# EAGLE library part CONN_DB25-F (library psas_eagle_library)
Standard 25 pin Female "D" type connector. This is the one that plugs into old-style (wide) PC serial ports.
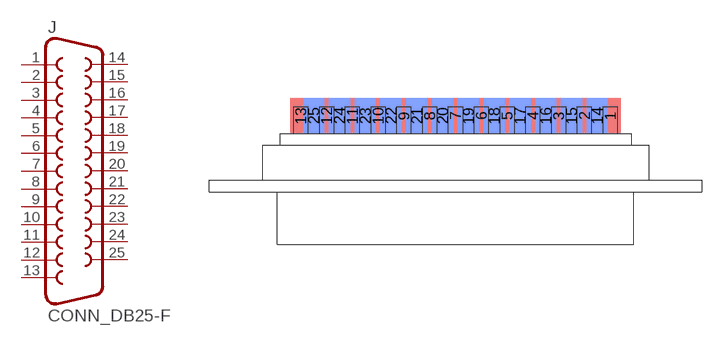
[diagram p27: symbol with the pads of DB25F-EDGEON; footprint DB25F-EDGEON]

Designator prefix J

## CONN_DB25-F-EDGEON  [DB25F-EDGEON]
1  1  pas
2  2  pas
3  3  pas
4  4  pas
5  5  pas
6  6  pas
7  7  pas
8  8  pas
9  9  pas
10  10  pas
11  11  pas
12  12  pas
13  13  pas
14  14  pas
15  15  pas
16  16  pas
17  17  pas
18  18  pas
19  19  pas
20  20  pas
21  21  pas
22  22  pas
23  23  pas
24  24  pas
25  25  pas

## Footprint DB25F-EDGEON (pad centres in mm)
Standard DB-25 Female connector, will plug into PC serial port. Fits over edge of approximately 0.055"+/-0.01" thick PCB.
smd 2.286 x 3.81: 1 16.764,1.905; 2 13.97,1.905; 3 11.176,1.905; 4 8.382,1.905; 5 5.588,1.905; 6 2.794,1.905; 7 0,1.905; 8 -2.794,1.905; 9 -5.588,1.905; 10 -8.382,1.905; 11 -11.176,1.905; 12 -13.97,1.905; 13 -16.764,1.905
smd 2.286 x 3.81 bottom: 14 15.367,1.905; 15 12.573,1.905; 16 9.779,1.905; 17 6.985,1.905; 18 4.191,1.905; 19 1.397,1.905; 20 -1.397,1.905; 21 -4.191,1.905; 22 -6.985,1.905; 23 -9.779,1.905; 24 -12.573,1.905; 25 -15.367,1.905